# Altium integrated library PZEM-004T.IntLib: 1 symbol
Pins are listed as number, name and electrical type; pins without a type are passive.

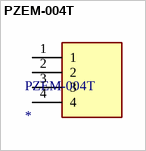
[diagram p0: symbol PZEM-004T]

## PZEM-004T
designator PZEM-004T
footprint PZEM-004T
pins: 1, 2, 3, 4